# Altium footprint library X_1x1.2.PcbLib: 1 footprints
Each footprint in its own frame and in the unit in brackets; x right, y up, seen from the top. Pads: shape width x height; smd on the part's side, far side on the other; paste and mask are expansions set on the pad; w line width, h text height; cw(c..) or ccw(c..) is an arc to the next point about the centre after c.
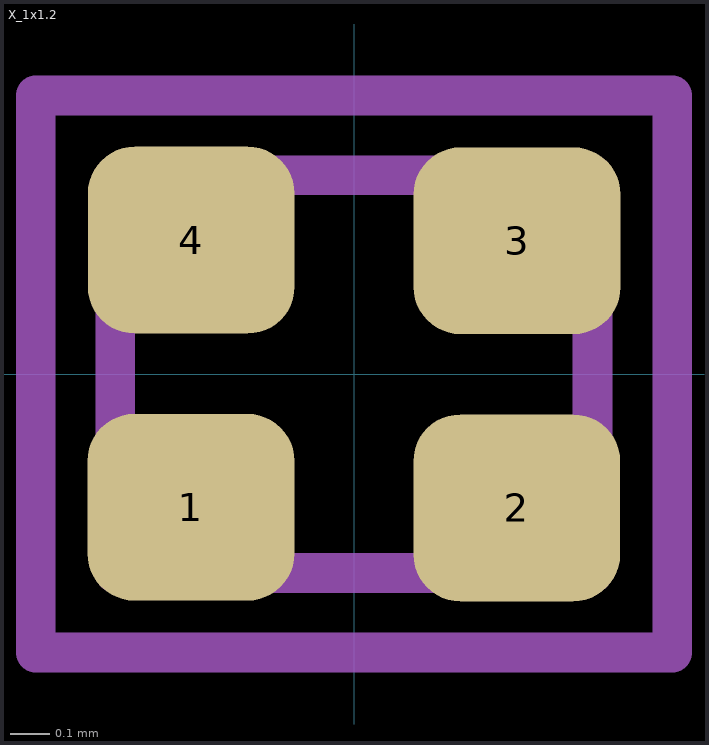
[diagram p0: the footprint, top view; thin cyan lines are the x and y axes]

## X_1x1.2 [mm]
pads (4):
  rrect50% 0.52x0.47 smd paste-0.02 mask+0.05: 1(-0.41,-0.335) 2(0.409,-0.337) 3(0.41,0.335) 4(-0.409,0.337)
Top Assembly:
  lines w0.1: -0.6,-0.5 0.6,-0.5 0.6,0.5 -0.6,0.5 -0.6,-0.5
Top Courtyard:
  lines w0.1: -0.8,-0.7 0.8,-0.7 0.8,0.7 -0.8,0.7 -0.8,-0.7
3D body: height 0.35, standoff 0, extent -0.6,-0.5 0.6,0.5